# EAGLE library part ATTINY167 (library SOIC127P1030X265-20N)
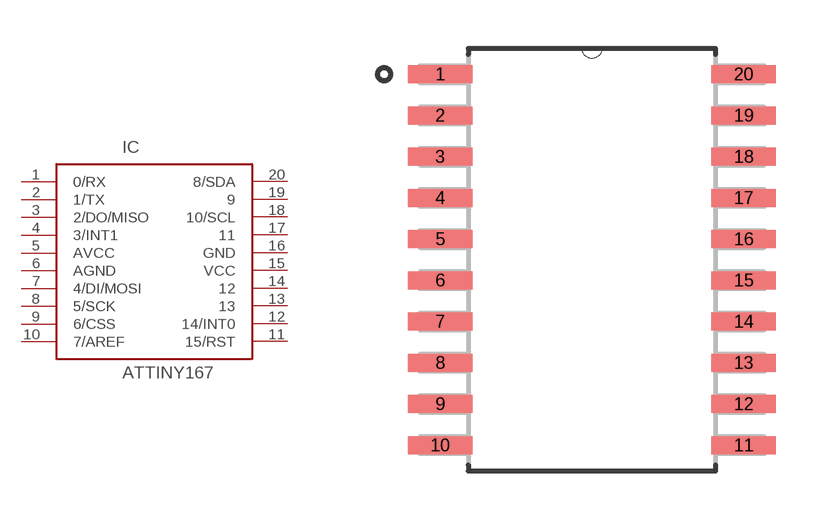
[diagram p0: symbol with the pads of SOIC127P1030X265-20N; footprint SOIC127P1030X265-20N]

Designator prefix IC

## ATTINY167  [SOIC127P1030X265-20N]
1  0/RX
2  1/TX
3  2/DO/MISO
4  3/INT1
5  AVCC  pwr
6  AGND  pwr
7  4/DI/MOSI
8  5/SCK
9  6/CSS
10  7/AREF
11  15/RST
12  14/INT0
13  13
14  12
15  VCC  pwr
16  GND  pwr
17  11
18  10/SCL
19  9
20  8/SDA

## Footprint SOIC127P1030X265-20N (pad centres in mm)
smd 1.981 x 0.559: 1 -4.674,5.715; 2 -4.674,4.445; 3 -4.674,3.175; 4 -4.674,1.905; 5 -4.674,0.635; 6 -4.674,-0.635; 7 -4.674,-1.905; 8 -4.674,-3.175; 9 -4.674,-4.445; 10 -4.674,-5.715; 11 4.674,-5.715; 12 4.674,-4.445; 13 4.674,-3.175; 14 4.674,-1.905; 15 4.674,-0.635; 16 4.674,0.635; 17 4.674,1.905; 18 4.674,3.175; 19 4.674,4.445; 20 4.674,5.715